# Altium footprint library 17-Relays.PcbLib: 68 footprints (part 2 of 5)
Each footprint in its own frame and in the unit in brackets; x right, y up, seen from the top. Pads: shape width x height; smd on the part's side, far side on the other; paste and mask are expansions set on the pad; w line width, h text height; cw(c..) or ccw(c..) is an arc to the next point about the centre after c.
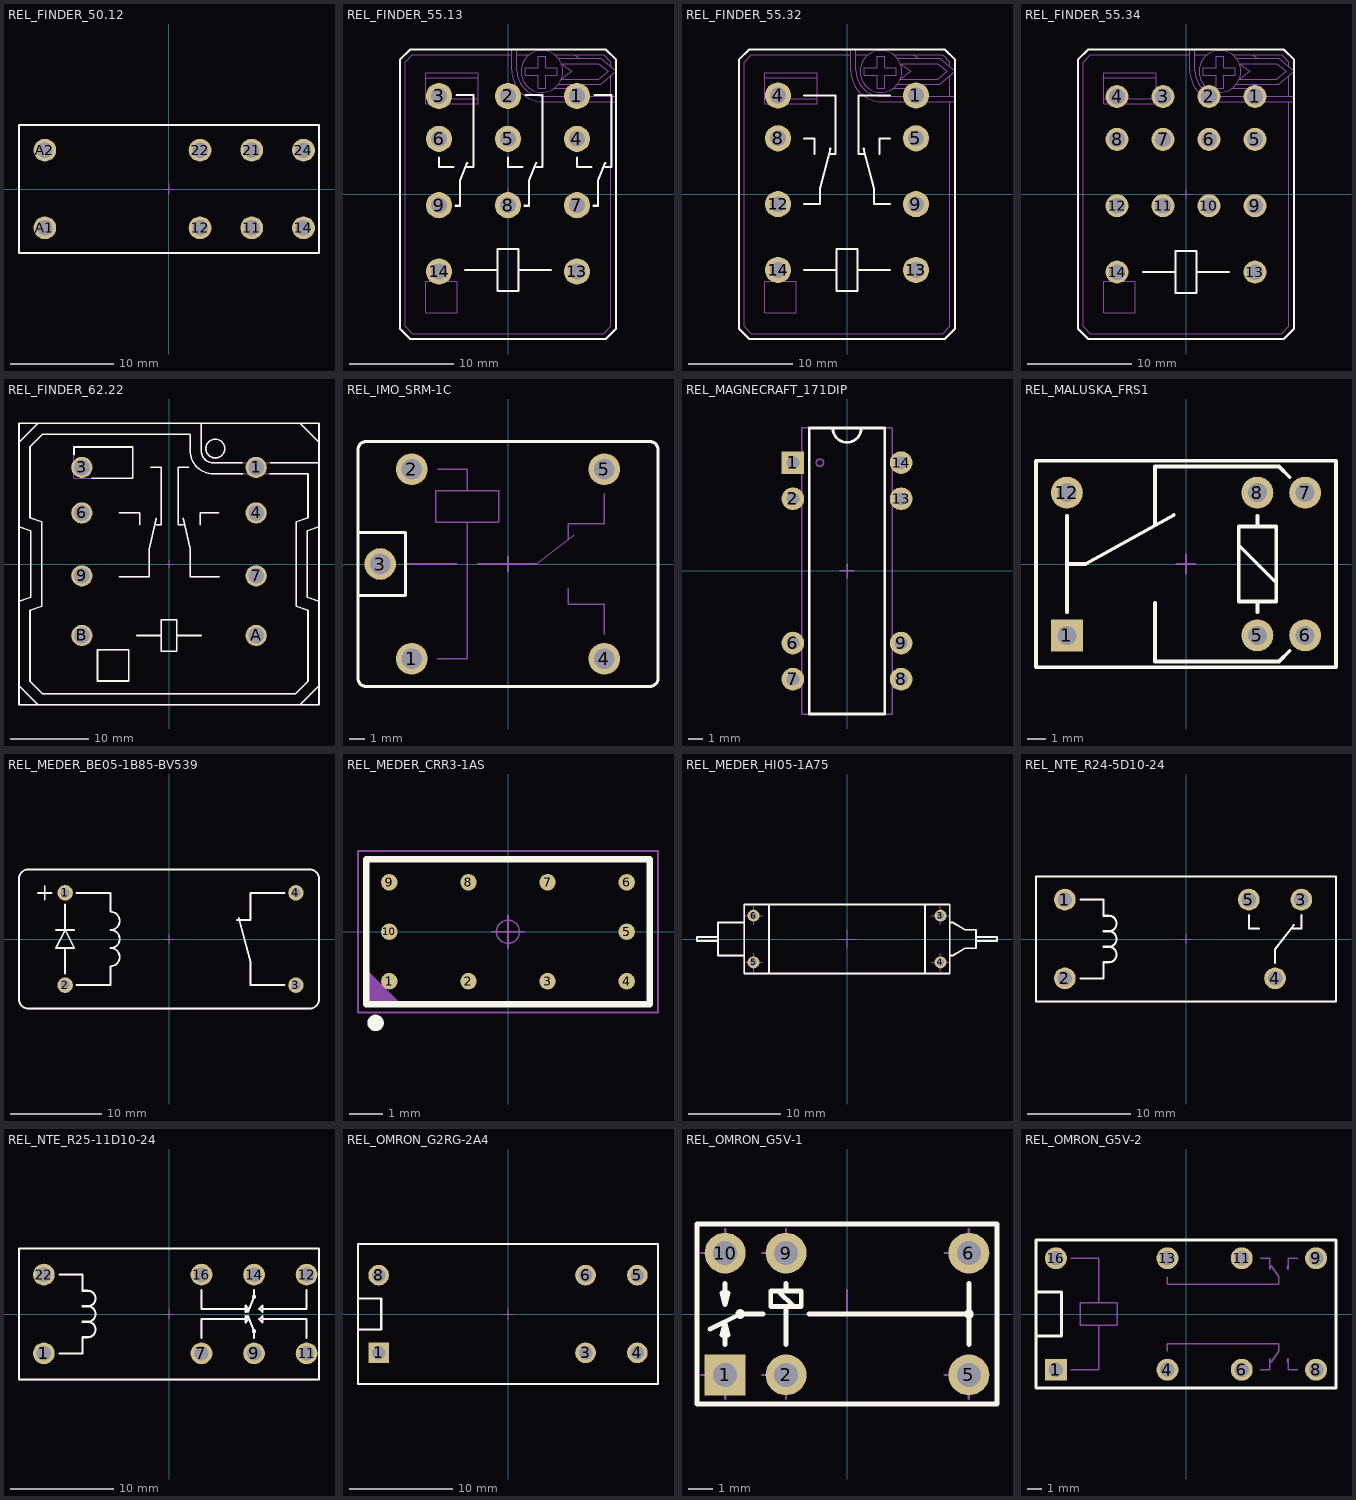
[diagram p1: the footprints below, top view; thin cyan lines are the x and y axes]

## REL_FINDER_50.12 [mm] "8 Leads, 2 Pole 8A Relay, FINDER 50.12 Serie, Body 29mm x 12.4mm"
height 25
pads (8):
  round 2.2 hole 1.5: 11(8,-3.75) 12(3,-3.75) 14(13,-3.75) 21(8,3.75) 22(3,3.75) 24(13,3.75) A1(-12,-3.75) A2(-12,3.75)
Top Overlay:
  lines w0.2: -14.5,-6.2 14.5,-6.2 14.5,6.2 -14.5,6.2 -14.5,-6.2
Mechanical 8:
  lines w0.1: -12.5,-3.75 -12,-3.75 ; -12.5,3.75 -12,3.75 ; -12,-4.25 -12,-3.75 ; -12,-3.25 -12,-3.75 ; -12,3.25 -12,3.75 ; -12,4.25 -12,3.75 ; -11.5,-3.75 -12,-3.75 ; -11.5,3.75 -12,3.75 ; -0.5,0 0,0 ; 0,-0.5 0,0 ; 0,0.5 0,0 ; 0.5,0 0,0 ; 2.5,-3.75 3,-3.75 ; 2.5,3.75 3,3.75 ; 3,-4.25 3,-3.75 ; 3,-3.25 3,-3.75 ; 3,3.25 3,3.75 ; 3,4.25 3,3.75 ; 3.5,-3.75 3,-3.75 ; 3.5,3.75 3,3.75 ; 7.5,-3.75 8,-3.75 ; 7.5,3.75 8,3.75 ; 8,-4.25 8,-3.75 ; 8,-3.25 8,-3.75 ; 8,3.25 8,3.75 ; 8,4.25 8,3.75 ; 8.5,-3.75 8,-3.75 ; 8.5,3.75 8,3.75 ; 12.5,-3.75 13,-3.75 ; 12.5,3.75 13,3.75 ; 13,-4.25 13,-3.75 ; 13,-3.25 13,-3.75 ; 13,3.25 13,3.75 ; 13,4.25 13,3.75 ; 13.5,-3.75 13,-3.75 ; 13.5,3.75 13,3.75
Mechanical 14:
  lines w0.1: -14.5,-6.2 14.5,-6.2 14.5,6.2 -14.5,6.2 -14.5,-6.2
3D body "REL_FINDER_50.12.stp": height 25, standoff -3.8, extent -14.5,-6.2 14.5,6.2

## REL_FINDER_55.13 [mm] "11 Leads, Row Spacing 13.2mm; Body 20.7mm x 27.7mm, FINDER_55.13 Serie"
height 35.8
pads (11):
  round 2.5 hole 1.5: 1(6.6,9.4) 2(0,9.4) 3(-6.6,9.4) 4(6.6,5.3) 5(0,5.3) 6(-6.6,5.3) 7(6.6,-1.05) 8(0,-1.05) 9(-6.6,-1.05) 13(6.6,-7.4) 14(-6.6,-7.4)
Top Overlay:
  lines w0.2: -6.6,3.5 -6.6,2.6 -5.2,2.6 ; -5,-1.1 -4.6,-1.1 -4.6,1.3 -3.9,3 ; -4.9,9.5 -3.3,9.5 -3.3,2.6 -3.9,2.6 ; -4.1,-7.25 -1,-7.25 ; 0,3.5 0,2.6 1.4,2.6 ; 1,-7.25 4.1,-7.25 ; 1.6,-1.1 2,-1.1 2,1.3 2.7,3 ; 1.7,9.5 3.3,9.5 3.3,2.6 2.7,2.6 ; 6.6,3.5 6.6,2.6 8,2.6 ; 8.2,-1.1 8.6,-1.1 8.6,1.3 9.3,3 ; 8.3,9.5 9.9,9.5 9.9,2.6 9.3,2.6 ; -10.35,-12.85 -9.35,-13.85 9.35,-13.85 10.35,-12.85 10.35,12.85 9.35,13.85 -9.35,13.85 -10.35,12.85 -10.35,-12.85 ; -1,-9.25 -1,-5.25 1,-5.25 1,-9.25 -1,-9.25
Mechanical 8:
  lines w0.1: -7.1,-7.4 -6.6,-7.4 ; -7.1,-1.05 -6.6,-1.05 ; -7.1,5.3 -6.6,5.3 ; -7.1,9.4 -6.6,9.4 ; -6.6,-7.9 -6.6,-7.4 ; -6.6,-6.9 -6.6,-7.4 ; -6.6,-1.55 -6.6,-1.05 ; -6.6,-0.55 -6.6,-1.05 ; -6.6,4.8 -6.6,5.3 ; -6.6,5.8 -6.6,5.3 ; -6.6,8.9 -6.6,9.4 ; -6.6,9.9 -6.6,9.4 ; -6.1,-7.4 -6.6,-7.4 ; -6.1,-1.05 -6.6,-1.05 ; -6.1,5.3 -6.6,5.3 ; -6.1,9.4 -6.6,9.4 ; -0.5,-1.05 0,-1.05 ; -0.5,0 0,0 ; -0.5,5.3 0,5.3 ; -0.5,9.4 0,9.4 ; 0,-1.55 0,-1.05 ; 0,-0.55 0,-1.05 ; 0,-0.5 0,0 ; 0,0.5 0,0 ; 0,4.8 0,5.3 ; 0,5.8 0,5.3 ; 0,8.9 0,9.4 ; 0,9.9 0,9.4 ; 0.5,-1.05 0,-1.05 ; 0.5,0 0,0 ; 0.5,5.3 0,5.3 ; 0.5,9.4 0,9.4 ; 6.1,-7.4 6.6,-7.4 ; 6.1,-1.05 6.6,-1.05 ; 6.1,5.3 6.6,5.3 ; 6.1,9.4 6.6,9.4 ; 6.6,-7.9 6.6,-7.4 ; 6.6,-6.9 6.6,-7.4 ; 6.6,-1.55 6.6,-1.05 ; 6.6,-0.55 6.6,-1.05 ; 6.6,4.8 6.6,5.3 ; 6.6,5.8 6.6,5.3 ; 6.6,8.9 6.6,9.4 ; 6.6,9.9 6.6,9.4 ; 7.1,-7.4 6.6,-7.4 ; 7.1,-1.05 6.6,-1.05 ; 7.1,5.3 6.6,5.3 ; 7.1,9.4 6.6,9.4
  text "4" at 9.7,4.85 h1.5
  text "1" at 9.7,9.25 h1.5
  text "7" at 9.6,-1.55 h1.5
  text "13" at 9.6,-8.45 h1.5
  text "34" at -8.1,4.05 h1.5
  text "42" at -8.1,8.15 h1.5
  text "31" at -8.1,-1.95 h1.5
  text "A2" at -8.1,-8.55 h1.5
  text "6" at -3.6,4.75 h1.5
  text "3" at -3.6,8.85 h1.5
  text "9" at -3.6,-1.45 h1.5
  text "14" at -3.6,-8.45 h1.5
  text "14" at 5.2,4.25 h1.5
  text "12" at 4.9,8.45 h1.5
  text "11" at 5.1,-1.95 h1.5
  text "A1" at 5.1,-8.45 h1.5
  text "2" at 3,8.95 h1.5
  text "22" at -1.5,8.15 h1.5
  text "5" at 3,4.75 h1.5
  text "24" at -1.5,4.05 h1.5
  text "8" at 3,-1.55 h1.5
  text "21" at -1.5,-1.95 h1.5
Mechanical 14:
  circle w0.1: c3.25,11.75 r2
  lines w0.1: -7.85,9.143 -2.85,9.143 ; -7.85,11.143 -2.85,11.143 ; -6.6,3.5 -6.6,2.6 -5.2,2.6 ; -5,-1.1 -4.6,-1.1 -4.6,1.3 -3.9,3 ; -4.9,9.5 -3.3,9.5 -3.3,2.6 -3.9,2.6 ; -4.1,-7.25 -1,-7.25 ; 0,3.5 0,2.6 1.4,2.6 ; 0.35,13.35 -9.143,13.35 -9.85,12.643 -9.85,-12.643 -9.143,-13.35 9.143,-13.35 9.85,-12.643 9.85,8.85 ; 0.35,13.85 0.35,11.85 ccw(c3.35,11.85) 3.35,8.85 10.35,8.85 ; 0.85,13.35 2.05,13.35 ; 0.85,13.85 0.85,11.85 ccw(c3.35,11.85) 3.35,9.35 10.35,9.35 ; 1,-7.25 4.1,-7.25 ; 1.6,-1.1 2,-1.1 2,1.3 2.7,3 ; 1.7,9.5 3.3,9.5 3.3,2.6 2.7,2.6 ; 4.45,10.15 6.346,10.15 6.831,10.5 ; 4.45,13.35 6.346,13.35 ; 4.811,10.5 8.85,10.5 10.35,11.75 8.85,13 4.811,13 ; 6.6,3.5 6.6,2.6 8,2.6 ; 6.831,13 6.346,13.35 ; 8.2,-1.1 8.6,-1.1 8.6,1.3 9.3,3 ; 8.3,9.5 9.9,9.5 9.9,2.6 9.3,2.6 ; 9.85,9.35 9.85,11.333 ; 9.85,12.167 9.85,12.643 9.143,13.35 6.346,13.35 ; -10.35,-12.85 -9.35,-13.85 9.35,-13.85 10.35,-12.85 10.35,12.85 9.35,13.85 -9.35,13.85 -10.35,12.85 -10.35,-12.85 ; -7.85,-11.343 -7.85,-8.343 -4.85,-8.343 -4.85,-11.343 -7.85,-11.343 ; -7.85,8.643 -7.85,11.643 -2.85,11.643 -2.85,8.643 -7.85,8.643 ; -1,-9.25 1,-9.25 1,-5.25 -1,-5.25 -1,-9.25 ; 1.641,11.402 1.641,12.088 2.902,12.088 2.902,13.222 3.588,13.222 3.588,12.088 4.71,12.088 4.71,11.402 3.588,11.402 3.588,10.153 2.902,10.153 2.902,11.402 1.641,11.402 ; 5.104,11 8.669,11 9.569,11.75 8.669,12.5 5.104,12.5 6.075,11.75 5.104,11
3D body "REL_FINDER_55.13.stp": height 36.3, standoff -3.8, extent -10.35,-13.85 10.35,13.85

## REL_FINDER_55.32 [mm] "8 Leads, Row Spacing 13.2mm; Body 20.7mm x 27.7mm, FINDER_55.32 Serie"
height 37.2
pads (8):
  round 2.5 hole 1.5: 1(6.6,9.45) 4(-6.6,9.45) 5(6.6,5.35) 8(-6.6,5.35) 9(6.6,-0.95) 12(-6.6,-0.95) 13(6.6,-7.25) 14(-6.6,-7.25)
Top Overlay:
  lines w0.2: -4.1,-7.25 -1,-7.25 ; -4.1,-0.95 -2.6,-0.95 -2.6,0.55 -1.6,4.35 ; -4.1,5.35 -3.1,5.35 -3.1,3.85 ; -4.1,9.45 -1.1,9.45 -1.1,3.85 -1.732,3.85 ; 1,-7.25 4.1,-7.25 ; 1.6,4.35 2.6,0.55 2.6,-0.95 4.1,-0.95 ; 1.732,3.85 1.1,3.85 1.1,9.45 4.1,9.45 ; 3.1,3.85 3.1,5.35 4.1,5.35 ; -10.35,-12.85 -10.35,12.85 -9.35,13.85 9.35,13.85 10.35,12.85 10.35,-12.85 9.35,-13.85 -9.35,-13.85 -10.35,-12.85 ; -1,-9.25 1,-9.25 1,-5.25 -1,-5.25 -1,-9.25
Mechanical 8:
  lines w0.1: -7.6,-7.25 -6.6,-7.25 -6.6,-8.25 ; -7.6,-0.95 -6.6,-0.95 -6.6,-1.95 ; -7.6,5.35 -6.6,5.35 -6.6,4.35 ; -7.6,9.45 -6.6,9.45 -6.6,8.45 ; 5.6,-7.25 6.6,-7.25 6.6,-8.25 ; 5.6,-0.95 6.6,-0.95 6.6,-1.95 ; 5.6,5.35 6.6,5.35 6.6,4.35 ; 5.6,9.45 6.6,9.45 6.6,8.45
  text "Must be Used with FINDER 94.12 Socket" at -1.27,-13.335 h0.95
  text "13" at 5.35,-8.25 h1.5
  text "9" at 5.35,-1.45 h1.5
  text "1" at 5.35,9.2 h1.5
  text "5" at 5.35,4.85 h1.5
  text "14" at -3.85,-8.25 h1.5
  text "12" at -3.85,-1.95 h1.5
  text "4" at -3.85,8.95 h1.5
  text "8" at -3.85,4.85 h1.5
  text "A2" at -7.85,-8.5 h1.5
  text "41" at -7.85,-1.95 h1.5
  text "42" at -7.85,8.2 h1.5
  text "44" at -7.85,4.1 h1.5
  text "A1" at 9.35,-8.25 h1.5
  text "11" at 9.35,-1.7 h1.5
  text "12" at 9.35,8.45 h1.5
  text "14" at 9.35,4.35 h1.5
Mechanical 14:
  circle w0.1: c3.25,11.75 r2
  lines w0.1: -7.85,9.143 -2.85,9.143 ; -7.85,11.143 -2.85,11.143 ; 0.35,13.35 -9.143,13.35 -9.85,12.643 -9.85,-12.643 -9.143,-13.35 9.143,-13.35 9.85,-12.643 9.85,8.85 ; 0.35,13.85 0.35,11.85 ccw(c3.35,11.85) 3.35,8.85 10.35,8.85 ; 0.85,13.35 2.05,13.35 ; 0.85,13.85 0.85,11.85 ccw(c3.35,11.85) 3.35,9.35 10.35,9.35 ; 4.45,10.15 6.346,10.15 6.831,10.5 ; 4.45,13.35 6.346,13.35 ; 4.811,10.5 8.85,10.5 10.35,11.75 8.85,13 4.811,13 ; 6.831,13 6.346,13.35 ; 9.85,9.35 9.85,11.333 ; 9.85,12.167 9.85,12.643 9.143,13.35 6.346,13.35 ; -10.35,-12.85 -10.35,12.85 -9.35,13.85 9.35,13.85 10.35,12.85 10.35,-12.85 9.35,-13.85 -9.35,-13.85 -10.35,-12.85 ; -7.85,-11.343 -4.85,-11.343 -4.85,-8.343 -7.85,-8.343 -7.85,-11.343 ; -7.85,8.643 -2.85,8.643 -2.85,11.643 -7.85,11.643 -7.85,8.643 ; 1.641,11.402 2.902,11.402 2.902,10.153 3.588,10.153 3.588,11.402 4.71,11.402 4.71,12.088 3.588,12.088 3.588,13.222 2.902,13.222 2.902,12.088 1.641,12.088 1.641,11.402 ; 5.104,11 6.075,11.75 5.104,12.5 8.669,12.5 9.569,11.75 8.669,11 5.104,11
3D body "REL_FINDER_55.32.stp": height 48.2, standoff 5.4, extent -10.35,-13.85 10.35,13.85

## REL_FINDER_55.34 [mm] "14 Leads, Row Spacing 4.4mm; Body 20.7mm x 27.7mm, FINDER_55.34 Serie"
height 37.2
pads (14):
  round 2.2 hole 1.5: 1(6.6,9.35) 2(2.2,9.35) 3(-2.2,9.35) 4(-6.6,9.35) 5(6.6,5.25) 6(2.2,5.25) 7(-2.2,5.25) 8(-6.6,5.25) 9(6.6,-1.1) 10(2.2,-1.1) 11(-2.2,-1.1) 12(-6.6,-1.1) 13(6.6,-7.45) 14(-6.6,-7.45)
Top Overlay:
  lines w0.2: -4.1,-7.45 -1,-7.45 ; 1,-7.45 4.1,-7.45 ; -10.35,-12.85 -9.35,-13.85 9.35,-13.85 10.35,-12.85 10.35,12.85 9.35,13.85 -9.35,13.85 -10.35,12.85 -10.35,-12.85 ; -1,-9.45 -1,-5.45 1,-5.45 1,-9.45 -1,-9.45
Mechanical 8:
  lines w0.1: -7.1,-7.45 -6.6,-7.45 ; -7.1,-1.1 -6.6,-1.1 ; -7.1,5.25 -6.6,5.25 ; -7.1,9.35 -6.6,9.35 ; -6.6,-7.95 -6.6,-7.45 ; -6.6,-6.95 -6.6,-7.45 ; -6.6,-1.6 -6.6,-1.1 ; -6.6,-0.6 -6.6,-1.1 ; -6.6,4.75 -6.6,5.25 ; -6.6,5.75 -6.6,5.25 ; -6.6,8.85 -6.6,9.35 ; -6.6,9.85 -6.6,9.35 ; -6.1,-7.45 -6.6,-7.45 ; -6.1,-1.1 -6.6,-1.1 ; -6.1,5.25 -6.6,5.25 ; -6.1,9.35 -6.6,9.35 ; -2.7,-1.1 -2.2,-1.1 ; -2.7,5.25 -2.2,5.25 ; -2.7,9.35 -2.2,9.35 ; -2.2,-1.6 -2.2,-1.1 ; -2.2,-0.6 -2.2,-1.1 ; -2.2,4.75 -2.2,5.25 ; -2.2,5.75 -2.2,5.25 ; -2.2,8.85 -2.2,9.35 ; -2.2,9.85 -2.2,9.35 ; -1.7,-1.1 -2.2,-1.1 ; -1.7,5.25 -2.2,5.25 ; -1.7,9.35 -2.2,9.35 ; -0.5,0 0,0 ; 0,-0.5 0,0 ; 0,0.5 0,0 ; 0.5,0 0,0 ; 1.7,-1.1 2.2,-1.1 ; 1.7,5.25 2.2,5.25 ; 1.7,9.35 2.2,9.35 ; 2.2,-1.6 2.2,-1.1 ; 2.2,-0.6 2.2,-1.1 ; 2.2,4.75 2.2,5.25 ; 2.2,5.75 2.2,5.25 ; 2.2,8.85 2.2,9.35 ; 2.2,9.85 2.2,9.35 ; 2.7,-1.1 2.2,-1.1 ; 2.7,5.25 2.2,5.25 ; 2.7,9.35 2.2,9.35 ; 6.1,-7.45 6.6,-7.45 ; 6.1,-1.1 6.6,-1.1 ; 6.1,5.25 6.6,5.25 ; 6.1,9.35 6.6,9.35 ; 6.6,-7.95 6.6,-7.45 ; 6.6,-6.95 6.6,-7.45 ; 6.6,-1.6 6.6,-1.1 ; 6.6,-0.6 6.6,-1.1 ; 6.6,4.75 6.6,5.25 ; 6.6,5.75 6.6,5.25 ; 6.6,8.85 6.6,9.35 ; 6.6,9.85 6.6,9.35 ; 7.1,-7.45 6.6,-7.45 ; 7.1,-1.1 6.6,-1.1 ; 7.1,5.25 6.6,5.25 ; 7.1,9.35 6.6,9.35
  text "14" at -7.9,-8.55 h1.5
  text "13" at 5.3,-8.55 h1.5
  text "1" at 5.3,8.9 h1.5
  text "5" at 5.3,4.8 h1.5
  text "9" at 5.3,-1.5 h1.5
  text "10" at 0.9,-2 h1.5
  text "11" at -3.5,-1.5 h1.5
  text "6" at 0.9,4.8 h1.5
  text "2" at 0.9,8.9 h1.5
  text "3" at -3.5,8.9 h1.5
  text "7" at -3.5,4.8 h1.5
  text "8" at -7.9,4.8 h1.5
  text "4" at -7.9,8.8 h1.5
  text "12" at -7.85,-1.95 h1.5
Mechanical 14:
  circle w0.1: c3.25,11.75 r2
  lines w0.1: -7.85,9.143 -2.85,9.143 ; -7.85,11.143 -2.85,11.143 ; 0.35,13.35 -9.143,13.35 -9.85,12.643 -9.85,-12.643 -9.143,-13.35 9.143,-13.35 9.85,-12.643 9.85,8.85 ; 0.35,13.85 0.35,11.85 ccw(c3.35,11.85) 3.35,8.85 10.35,8.85 ; 0.85,13.35 2.05,13.35 ; 0.85,13.85 0.85,11.85 ccw(c3.35,11.85) 3.35,9.35 10.35,9.35 ; 4.45,10.15 6.346,10.15 6.831,10.5 ; 4.45,13.35 6.346,13.35 ; 4.811,10.5 8.85,10.5 10.35,11.75 8.85,13 4.811,13 ; 6.831,13 6.346,13.35 ; 9.85,9.35 9.85,11.333 ; 9.85,12.167 9.85,12.643 9.143,13.35 6.346,13.35 ; -10.35,-12.85 -9.35,-13.85 ; -10.35,-12.85 -10.35,12.85 ; -10.35,-12.85 -9.35,-13.85 ; -10.35,-12.85 -10.35,12.85 ; -10.35,12.85 -9.35,13.85 ; -10.35,12.85 -9.35,13.85 ; -9.35,-13.85 9.35,-13.85 ; -9.35,-13.85 9.35,-13.85 ; -9.35,13.85 9.35,13.85 ; -9.35,13.85 9.35,13.85 ; 9.35,-13.85 10.35,-12.85 ; 9.35,-13.85 10.35,-12.85 ; 9.35,13.85 10.35,12.85 ; 9.35,13.85 10.35,12.85 ; 10.35,-12.85 10.35,12.85 ; 10.35,-12.85 10.35,12.85 ; -7.85,-11.343 -7.85,-8.343 -4.85,-8.343 -4.85,-11.343 -7.85,-11.343 ; -7.85,8.643 -7.85,11.643 -2.85,11.643 -2.85,8.643 -7.85,8.643 ; 1.641,11.402 1.641,12.088 2.902,12.088 2.902,13.222 3.588,13.222 3.588,12.088 4.71,12.088 4.71,11.402 3.588,11.402 3.588,10.153 2.902,10.153 2.902,11.402 1.641,11.402 ; 5.104,11 6.075,11.75 5.104,12.5 8.669,12.5 9.569,11.75 8.669,11 5.104,11
3D body "REL_FINDER_55.34.stp": height 48.7, standoff 5.4, extent -10.35,-13.85 10.35,13.85

## REL_FINDER_62.22 [mm] "8 Leads, Row Spacing 22.2mm; Body 35.8mm x 38.2mm, FINDER 62.22 Serie"
height 37.2
pads (8):
  round 2.7 hole 2: 1(11.1,12.3) 3(-11.1,12.3) 4(11.1,6.5) 6(-11.1,6.5) 7(11.1,-1.5) 9(-11.1,-1.5) A(11.1,-9.1) B(-11.1,-9.1)
Top Overlay:
  circle w0.2: c5.9,14.7 r1.2
  lines w0.2: -19.1,-4.75 -17.6,-4.25 -17.6,4.25 -19.1,4.75 ; -12.1,13.916 -12.1,14.9 -4.6,14.9 -4.6,10.9 -9.815,10.9 ; -6.3,-1.6 -2.5,-1.6 -2.5,1.9 -1.6,5.8 ; -6.3,6.5 -3.7,6.5 -3.7,5 ; -4.1,-9.1 -1,-9.1 ; -2.3,12.3 -1,12.3 -1,5 -1.632,5 ; 1,-9.1 4.1,-9.1 ; 1.8,5.8 2.7,1.9 2.7,-1.6 6.4,-1.6 ; 1.832,5 1.2,5 1.2,12.3 2.5,12.3 ; 4,5 4,6.5 6.3,6.5 ; 4.1,17.9 4.1,14.4 ccw(c5.6,14.4) 5.6,12.9 9.297,12.9 ; 9.377,11.5 5.6,11.5 cw(c5.6,14.4) 2.7,14.4 2.7,16.5 -16.127,16.5 -17.7,14.927 -17.7,5.899 -16.2,5.399 -16.2,-5.399 -17.7,-5.899 -17.7,-14.927 -16.127,-16.5 16.127,-16.5 17.7,-14.927 17.7,-5.899 16.2,-5.399 16.2,5.399 17.7,5.899 17.7,11.5 12.823,11.5 ; 12.903,12.9 19.1,12.9 ; 19.1,-4.75 17.6,-4.25 17.6,4.25 19.1,4.75 ; -19.1,-15.5 -19.1,15.5 ; -19.1,-15.5 -16.7,-17.9 ; -19.1,-15.5 -19.1,-17.9 -16.7,-17.9 ; -19.1,15.5 -16.7,17.9 ; -19.1,15.5 -19.1,17.9 -16.7,17.9 ; -16.7,-17.9 16.7,-17.9 ; -16.7,17.9 16.7,17.9 ; 16.7,-17.9 19.1,-15.5 ; 16.7,-17.9 19.1,-17.9 19.1,-15.5 ; 16.7,17.9 19.1,15.5 ; 16.7,17.9 19.1,17.9 19.1,15.5 ; 19.1,-15.5 19.1,15.5 ; -9.1,-14.9 -5.1,-14.9 -5.1,-10.9 -9.1,-10.9 -9.1,-14.9 ; -1,-11.1 1,-11.1 1,-7.1 -1,-7.1 -1,-11.1
Mechanical 8:
  lines w0.1: -11.6,-9.1 -11.1,-9.1 ; -11.6,-1.5 -11.1,-1.5 ; -11.6,6.5 -11.1,6.5 ; -11.6,12.3 -11.1,12.3 ; -11.1,-9.6 -11.1,-9.1 ; -11.1,-8.6 -11.1,-9.1 ; -11.1,-2 -11.1,-1.5 ; -11.1,-1 -11.1,-1.5 ; -11.1,6 -11.1,6.5 ; -11.1,7 -11.1,6.5 ; -11.1,11.8 -11.1,12.3 ; -11.1,12.8 -11.1,12.3 ; -10.6,-9.1 -11.1,-9.1 ; -10.6,-1.5 -11.1,-1.5 ; -10.6,6.5 -11.1,6.5 ; -10.6,12.3 -11.1,12.3 ; -0.5,0 0,0 ; 0,-0.5 0,0 ; 0,0.5 0,0 ; 0.5,0 0,0 ; 10.6,-9.1 11.1,-9.1 ; 10.6,-1.5 11.1,-1.5 ; 10.6,6.5 11.1,6.5 ; 10.6,12.3 11.1,12.3 ; 11.1,-9.6 11.1,-9.1 ; 11.1,-8.6 11.1,-9.1 ; 11.1,-2 11.1,-1.5 ; 11.1,-1 11.1,-1.5 ; 11.1,6 11.1,6.5 ; 11.1,7 11.1,6.5 ; 11.1,11.8 11.1,12.3 ; 11.1,12.8 11.1,12.3 ; 11.6,-9.1 11.1,-9.1 ; 11.6,-1.5 11.1,-1.5 ; 11.6,6.5 11.1,6.5 ; 11.6,12.3 11.1,12.3
  text "B" at -13.15,-10.1 h1.5
  text "9" at -13.15,-2 h1.5
  text "3" at -13.15,12.05 h1.5
  text "6" at -13.15,6 h1.5
  text "A" at 14.65,-10.1 h1.5
  text "7" at 14.65,-2.5 h1.5
  text "1" at 14.65,11.8 h1.5
  text "4" at 14.65,6 h1.5
  text "A1" at 9.05,-10.35 h1.5
  text "11" at 9.05,-2.5 h1.5
  text "12" at 9.05,11.05 h1.5
  text "14" at 9.05,5.25 h1.5
  text "A2" at -7.55,-10.1 h1.5
  text "31" at -7.55,-2.25 h1.5
  text "32" at -7.55,11.3 h1.5
  text "34" at -7.55,5.5 h1.5
Mechanical 14:
  circle w0.1: c5.9,14.7 r1.2
  lines w0.1: -19.1,-4.75 -17.6,-4.25 -17.6,4.25 -19.1,4.75 ; -6.3,-1.6 -2.5,-1.6 -2.5,1.9 -1.6,5.8 ; -6.3,6.5 -3.7,6.5 -3.7,5 ; -4.1,-9.1 -1,-9.1 ; -2.3,12.3 -1,12.3 -1,5 -1.632,5 ; 1,-9.1 4.1,-9.1 ; 1.8,5.8 2.7,1.9 2.7,-1.6 6.4,-1.6 ; 1.832,5 1.2,5 1.2,12.3 2.5,12.3 ; 4,5 4,6.5 6.3,6.5 ; 4.1,17.9 4.1,14.4 ccw(c5.6,14.4) 5.6,12.9 19.1,12.9 ; 19.1,-4.75 17.6,-4.25 17.6,4.25 19.1,4.75 ; -19.1,-15.5 -19.1,-17.9 -16.7,-17.9 ; -19.1,-15.5 -19.1,15.5 ; -19.1,-15.5 -16.7,-17.9 ; -19.1,15.5 -19.1,17.9 -16.7,17.9 ; -19.1,15.5 -16.7,17.9 ; -16.7,-17.9 16.7,-17.9 ; -16.7,17.9 16.7,17.9 ; 16.7,-17.9 19.1,-17.9 19.1,-15.5 ; 16.7,-17.9 19.1,-15.5 ; 16.7,17.9 19.1,17.9 19.1,15.5 ; 16.7,17.9 19.1,15.5 ; 19.1,-15.5 19.1,15.5 ; -17.7,-14.927 -16.127,-16.5 16.127,-16.5 17.7,-14.927 17.7,-5.899 16.2,-5.399 16.2,5.399 17.7,5.899 17.7,11.5 5.6,11.5 cw(c5.6,14.4) 2.7,14.4 2.7,16.5 -16.127,16.5 -17.7,14.927 -17.7,5.899 -16.2,5.399 -16.2,-5.399 -17.7,-5.899 -17.7,-14.927 ; -12.1,10.9 -4.6,10.9 -4.6,14.9 -12.1,14.9 -12.1,10.9 ; -9.1,-14.9 -5.1,-14.9 -5.1,-10.9 -9.1,-10.9 -9.1,-14.9 ; -1,-11.1 -1,-7.1 1,-7.1 1,-11.1 -1,-11.1
3D body "REL_FINDER_62.22.stp": height 49.1, standoff -4, extent -19.1,-17.9 19.1,17.9

## REL_IMO_SRM-1C [mm] "8 Leads, Row Spacing 12 mm; Body 19mm x 15.5mm, SRM Serie"
height 15.5
pads (5):
  round 2 hole 1.3: 1(-6.1,-6) 2(-6.1,6) 3(-8.1,0) 4(6.1,-6) 5(6.1,6)
Top Overlay:
  lines w0.2: -9.5,-2 -6.5,-2 -6.5,2 -9.5,2 ; -9.5,-7.25 ccw(c-9,-7.25) -9,-7.75 9,-7.75 ccw(c9,-7.25) 9.5,-7.25 9.5,7.25 ccw(c9,7.25) 9,7.75 -9,7.75 ccw(c-9,7.25) -9.5,7.25 -9.5,-7.25
Mechanical 8:
  lines w0.1: -8.6,0 -8.1,0 ; -8.1,-0.5 -8.1,0 ; -8.1,0.5 -8.1,0 ; -7.6,0 -8.1,0 ; -6.6,-6 -6.1,-6 ; -6.6,6 -6.1,6 ; -6.5,0 -3.25,0 ; -6.1,-6.5 -6.1,-6 ; -6.1,-5.5 -6.1,-6 ; -6.1,5.5 -6.1,6 ; -6.1,6.5 -6.1,6 ; -5.6,-6 -6.1,-6 ; -5.6,6 -6.1,6 ; -4.475,-6 -2.575,-6 -2.575,2.65 ; -4.45,6 -2.575,6 -2.575,4.65 ; -1.9,0 1.81,0 4.152,1.803 ; 3.81,-1.54 3.81,-2.54 6.1,-2.54 ; 3.81,1.54 3.81,2.54 6.1,2.54 6.1,4.44 ; 5.6,-6 6.1,-6 ; 5.6,6 6.1,6 ; 6.1,-6.5 6.1,-6 ; 6.1,-5.5 6.1,-6 ; 6.1,-4.45 6.1,-2.55 ; 6.1,5.5 6.1,6 ; 6.1,6.5 6.1,6 ; 6.6,-6 6.1,-6 ; 6.6,6 6.1,6 ; 0,0 0,0.5 0,0 ; 0,0 0.5,0 0,0 ; 0,0 0,-0.5 0,0 ; 0,0 -0.5,0 0,0 ; -4.575,2.65 -0.575,2.65 -0.575,4.65 -4.575,4.65 -4.575,2.65
Mechanical 14:
  lines w0.1: -9.5,-2 -6.5,-2 -6.5,2 -9.5,2 ; -9.5,-7.25 ccw(c-9,-7.25) -9,-7.75 9,-7.75 ccw(c9,-7.25) 9.5,-7.25 9.5,7.25 ccw(c9,7.25) 9,7.75 -9,7.75 ccw(c-9,7.25) -9.5,7.25 -9.5,-7.25
3D body "REL_IMO_SRM-1C.stp": height 15.5, standoff -3.6, extent -9.5,-7.75 9.5,7.75

## REL_MAGNECRAFT_171DIP [mm] "DIP 14 Leads, Row Spacing 7.62 mm; Pitch 2.54 mm, PCB & Reed Relay, 171DIP Serie"
height 8
pads (8):
  rect 1.6x1.6 hole 0.9: 1(-3.81,7.62)
  round 1.6 hole 0.9: 2(-3.81,5.08) 6(-3.81,-5.08) 7(-3.81,-7.62) 8(3.81,-7.62) 9(3.81,-5.08) 13(3.81,5.08) 14(3.81,7.62)
Top Overlay:
  lines w0.2: -1,10.046 ccw(c0,10.046) 1,10.046 ; -2.66,-10.07 2.66,-10.07 2.66,10.07 -2.66,10.07 -2.66,-10.07
Mechanical 8:
  lines w0.1: -4.31,-7.62 -3.81,-7.62 ; -4.31,-5.08 -3.81,-5.08 ; -4.31,5.08 -3.81,5.08 ; -4.31,7.62 -3.81,7.62 ; -3.81,-8.12 -3.81,-7.62 ; -3.81,-7.12 -3.81,-7.62 ; -3.81,-5.58 -3.81,-5.08 ; -3.81,-4.58 -3.81,-5.08 ; -3.81,4.58 -3.81,5.08 ; -3.81,5.58 -3.81,5.08 ; -3.81,7.12 -3.81,7.62 ; -3.81,8.12 -3.81,7.62 ; -3.31,-7.62 -3.81,-7.62 ; -3.31,-5.08 -3.81,-5.08 ; -3.31,5.08 -3.81,5.08 ; -3.31,7.62 -3.81,7.62 ; -0.5,0 0,0 ; 0,-0.5 0,0 ; 0,0.5 0,0 ; 0.5,0 0,0 ; 3.31,-7.62 3.81,-7.62 ; 3.31,-5.08 3.81,-5.08 ; 3.31,5.08 3.81,5.08 ; 3.31,7.62 3.81,7.62 ; 3.81,-8.12 3.81,-7.62 ; 3.81,-7.12 3.81,-7.62 ; 3.81,-5.58 3.81,-5.08 ; 3.81,-4.58 3.81,-5.08 ; 3.81,4.58 3.81,5.08 ; 3.81,5.58 3.81,5.08 ; 3.81,7.12 3.81,7.62 ; 3.81,8.12 3.81,7.62 ; 4.31,-7.62 3.81,-7.62 ; 4.31,-5.08 3.81,-5.08 ; 4.31,5.08 3.81,5.08 ; 4.31,7.62 3.81,7.62
Mechanical 14:
  circle w0.1: c-1.905,7.62 r0.254
  lines w0.1: -1,10.07 ccw(c0,10.046) 1,10.07 ; -3.175,-10.07 -3.175,10.07 3.175,10.07 3.175,-10.07 -3.175,-10.07
3D body "REL_MAGNECRAFT_171DIP.stp": height 8.26, standoff -3.3, extent -3.935,-10.07 3.935,10.07

## REL_MALUSKA_FRS1 [mm] "6 Leads, Row Spacing 7.62mm; Body 16mm x 11mm, MALUSKA FRS1 Serie"
height 11.5
pads (6):
  rect 1.7x1.7 hole 1: 1(-6.35,-3.81)
  round 1.7 hole 1: 5(3.81,-3.81) 6(6.35,-3.81) 7(6.35,3.81) 8(3.81,3.81) 12(-6.35,3.81)
Top Overlay:
  lines w0.2: -6.35,-2.56 -6.35,2.56 ; -6.35,0 -5.35,0 -0.65,2.617 ; -1.65,-2.06 -1.65,-5.2 4.96,-5.2 5.537,-4.623 ; -1.65,2.06 -1.65,5.2 4.96,5.2 5.537,4.623 ; 2.81,1 4.81,-1 ; 3.81,-2.56 3.81,-2 ; 3.81,2 3.81,2.56 ; -8,-5.5 -8,5.5 8,5.5 8,-5.5 -8,-5.5 ; 2.81,-2 2.81,2 4.81,2 4.81,-2 2.81,-2
Mechanical 8:
  lines w0.1: -6.85,-3.81 -6.35,-3.81 ; -6.85,3.81 -6.35,3.81 ; -6.35,-4.31 -6.35,-3.81 ; -6.35,-3.31 -6.35,-3.81 ; -6.35,3.31 -6.35,3.81 ; -6.35,4.31 -6.35,3.81 ; -5.85,-3.81 -6.35,-3.81 ; -5.85,3.81 -6.35,3.81 ; -0.5,0 0,0 ; 0,-0.5 0,0 ; 0,0.5 0,0 ; 0.5,0 0,0 ; 3.31,-3.81 3.81,-3.81 ; 3.31,3.81 3.81,3.81 ; 3.81,-4.31 3.81,-3.81 ; 3.81,-3.31 3.81,-3.81 ; 3.81,3.31 3.81,3.81 ; 3.81,4.31 3.81,3.81 ; 4.31,-3.81 3.81,-3.81 ; 4.31,3.81 3.81,3.81 ; 5.85,-3.81 6.35,-3.81 ; 5.85,3.81 6.35,3.81 ; 6.35,-4.31 6.35,-3.81 ; 6.35,-3.31 6.35,-3.81 ; 6.35,3.31 6.35,3.81 ; 6.35,4.31 6.35,3.81 ; 6.85,-3.81 6.35,-3.81 ; 6.85,3.81 6.35,3.81
Mechanical 14:
  lines w0.1: -6.35,-2.56 -6.35,2.56 ; -6.35,0 -5.35,0 -0.65,2.617 ; -1.65,-2.06 -1.65,-5.2 4.96,-5.2 5.537,-4.623 ; -1.65,2.06 -1.65,5.2 ; 2.81,1 4.81,-1 ; 3.81,-2.56 3.81,-2 ; 3.81,2 3.81,2.56 ; 4.96,5.2 5.537,4.623 ; -8,-5.5 -8,5.5 8,5.5 8,-5.5 -8,-5.5 ; 2.81,-2 2.81,2 4.81,2 4.81,-2 2.81,-2
3D body "REL_MALUSKA_FRS1.stp": height 11.5, standoff -3.8, extent -8,-5.5 8,5.5

## REL_MEDER_BE05-1B85-BV539 [mm] "1 Form B (SPST Normaly Close) PCB Relay, Body 33mm x 15.3mm, Body 33mm x 15.3mm"
height 10
pads (4):
  round 1.7 hole 1: 1(-11.43,5.08) 2(-11.43,-5.08) 3(13.97,-5.08) 4(13.97,5.08)
Top Overlay:
  lines w0.2: -14.43,5.08 -12.93,5.08 ; -13.68,4.33 -13.68,5.83 ; -12.43,1 -10.43,1 ; -11.43,-3.83 -11.43,-1 ; -11.43,3.83 -11.43,1 ; -10.18,-5.08 -6.43,-5.08 -6.43,-3 ccw(c-6.43,-2) -6.43,-1 ccw(c-6.43,0) -6.43,1 ccw(c-6.43,2) -6.43,3 -6.43,5.08 -10.18,5.08 ; 7.47,2.08 8.97,2.08 8.97,5.08 12.72,5.08 ; 7.676,2.33 8.97,-2.5 8.97,-5.08 12.72,-5.08 ; -11.43,1 -10.43,-1 -12.43,-1 -11.43,1 ; -16.51,-6.65 ccw(c-15.51,-6.65) -15.51,-7.65 15.51,-7.65 ccw(c15.51,-6.65) 16.51,-6.65 16.51,6.65 ccw(c15.51,6.65) 15.51,7.65 -15.51,7.65 ccw(c-15.51,6.65) -16.51,6.65 -16.51,-6.65
Mechanical 8:
  lines w0.1: -11.93,-5.08 -11.43,-5.08 ; -11.93,5.08 -11.43,5.08 ; -11.43,-5.58 -11.43,-5.08 ; -11.43,-4.58 -11.43,-5.08 ; -11.43,4.58 -11.43,5.08 ; -11.43,5.58 -11.43,5.08 ; -10.93,-5.08 -11.43,-5.08 ; -10.93,5.08 -11.43,5.08 ; -0.5,0 0,0 ; 0,-0.5 0,0 ; 0,0.5 0,0 ; 0.5,0 0,0 ; 13.47,-5.08 13.97,-5.08 ; 13.47,5.08 13.97,5.08 ; 13.97,-5.58 13.97,-5.08 ; 13.97,-4.58 13.97,-5.08 ; 13.97,4.58 13.97,5.08 ; 13.97,5.58 13.97,5.08 ; 14.47,-5.08 13.97,-5.08 ; 14.47,5.08 13.97,5.08
Mechanical 14:
  lines w0.1: -14.43,5.08 -12.93,5.08 ; -13.68,4.33 -13.68,5.83 ; -12.43,1 -10.43,1 ; -11.43,-3.83 -11.43,-1 ; -11.43,3.83 -11.43,1 ; -10.18,-5.08 -6.43,-5.08 -6.43,-3 ccw(c-6.43,-2) -6.43,-1 ccw(c-6.43,0) -6.43,1 ccw(c-6.43,2) -6.43,3 -6.43,5.08 -10.18,5.08 ; 7.47,2.08 8.97,2.08 8.97,5.08 12.72,5.08 ; 7.676,2.33 8.97,-2.5 8.97,-5.08 12.72,-5.08 ; -11.43,1 -10.43,-1 -12.43,-1 -11.43,1 ; -16.51,-6.65 ccw(c-15.51,-6.65) -15.51,-7.65 15.51,-7.65 ccw(c15.51,-6.65) 16.51,-6.65 16.51,6.65 ccw(c15.51,6.65) 15.51,7.65 -15.51,7.65 ccw(c-15.51,6.65) -16.51,6.65 -16.51,-6.65
3D body "REL_MEDER_BE05-1B85-BV539.stp": height 10, standoff -3.2, extent -16.51,-7.65 16.51,7.65

## REL_MEDER_CRR3-1AS [mm] "10 Pin SPST BGA Relay, MEDER CRR3-1AS CRR Serie, Body 8.6mm x 4.4mm"
height 3.9
pads (10):
  round 0.5 smd: 1(-3.6,-1.5) 2(-1.2,-1.5) 3(1.2,-1.5) 4(3.6,-1.5) 5(3.6,0) 6(3.6,1.5) 7(1.2,1.5) 8(-1.2,1.5) 9(-3.6,1.5) 10(-3.6,0)
Top Overlay:
  circle w0.25: c-4.017,-2.766 r0.125
  lines w0.2: -4.3,-2.2 4.3,-2.2 4.3,2.2 -4.3,2.2 -4.3,-2.2
Mechanical 14:
  lines w0.1: -4.3,-2.1 -4.2,-2.2 ; -4.3,-2 -4.1,-2.2 ; -4.3,-1.9 -4,-2.2 ; -4.3,-1.8 -3.9,-2.2 ; -4.3,-1.7 -3.8,-2.2 ; -4.3,-1.6 -3.7,-2.2 ; -4.3,-1.5 -3.6,-2.2 ; -4.3,-1.4 -3.5,-2.2 ; -4.3,-1.3 -3.4,-2.2 ; -4.3,-1.2 -3.3,-2.2 ; -4.3,-2.2 4.3,-2.2 4.3,2.2 -4.3,2.2 -4.3,-2.2
Mechanical 15:
  circle w0.05: c0,0 r0.35
  lines w0.05: -0.5,0 0.5,0 ; 0,-0.5 0,0.5 ; -4.55,-2.45 4.55,-2.45 4.55,2.45 -4.55,2.45 -4.55,-2.45
3D body "REL_MEDER_CRR3-1AS.stp": height 3.6, standoff 0, extent -4.3,-2.2 4.3,2.2

## REL_MEDER_HI05-1A75 [mm] "SPST High Insulation Reed Relay, MEDER HI Series, Body 34 x 7.5 x 7.9 mm"
height 7.9
pads (4):
  round 1.3 hole 0.8: 3(10.16,2.54) 4(10.16,-2.54) 5(-10.16,-2.54) 6(-10.16,2.54)
Top Overlay:
  lines w0.2: -14,-0.2 -16.3,-0.2 -16.3,0.2 -14,0.2 ; -11.16,-1.8 -14,-1.8 -14,1.8 -11.16,1.8 ; -8.46,-3.75 -8.46,3.75 ; 8.46,-3.75 8.46,3.75 ; 11.16,-1.8 11.5,-1.8 12.833,-1 14,-1 14,1 12.833,1 11.5,1.8 11.16,1.8 ; 14,-0.2 16.3,-0.2 16.3,0.2 14,0.2 ; -11.16,-3.75 -11.16,3.75 11.16,3.75 11.16,-3.75 -11.16,-3.75
Mechanical 8:
  lines w0.1: -11.16,-2.54 -10.16,-2.54 ; -11.16,2.54 -10.16,2.54 ; -10.16,-3.54 -10.16,-2.54 ; -10.16,-1.54 -10.16,-2.54 ; -10.16,1.54 -10.16,2.54 ; -10.16,3.54 -10.16,2.54 ; -9.16,-2.54 -10.16,-2.54 ; -9.16,2.54 -10.16,2.54 ; -1,0 0,0 ; 0,-1 0,0 ; 0,1 0,0 ; 1,0 0,0 ; 9.16,-2.54 10.16,-2.54 ; 9.16,2.54 10.16,2.54 ; 10.16,-3.54 10.16,-2.54 ; 10.16,-1.54 10.16,-2.54 ; 10.16,1.54 10.16,2.54 ; 10.16,3.54 10.16,2.54 ; 11.16,-2.54 10.16,-2.54 ; 11.16,2.54 10.16,2.54
Mechanical 14:
  lines w0.1: -14,-0.2 -16.3,-0.2 -16.3,0.2 -14,0.2 ; -11.16,-1.8 -14,-1.8 -14,1.8 -11.16,1.8 ; -8.46,-3.75 -8.46,3.75 ; 8.46,-3.75 8.46,3.75 ; 11.16,-1.8 11.5,-1.8 12.833,-1 14,-1 14,1 12.833,1 11.5,1.8 11.16,1.8 ; 14,-0.2 16.3,-0.2 16.3,0.2 14,0.2 ; -11.16,-3.75 -11.16,3.75 11.16,3.75 11.16,-3.75 -11.16,-3.75
3D body "REL_MEDER_HI05-1A75.stp": height 7.4, standoff -3.8, extent -16.3,-3.75 16.3,3.75

## REL_NTE_R24-5D10-24 [mm] "SPDT PCB Relay, R24 Serie"
height 26.2
pads (5):
  round 2.1 hole 1.4: 1(-11.71,3.81) 2(-11.71,-3.81) 3(11.15,3.81) 4(8.61,-3.81) 5(6.07,3.81)
Top Overlay:
  lines w0.2: -10.21,-3.81 -7.958,-3.81 -7.958,-2.25 -7.458,-2.25 ccw(c-7.458,-1.5) -7.458,-0.75 ; -10.21,3.81 -7.958,3.81 -7.958,2.25 -7.458,2.25 cw(c-7.458,1.5) -7.458,0.75 ; -7.958,-0.75 -7.458,-0.75 ; -7.958,0.75 -7.458,0.75 ; 6.07,2.31 6.07,1 7.07,1 ; 8.61,-2.31 8.61,-1 10.413,1.342 ; 10.15,1 11.15,1 11.15,2.31 ; -7.458,-0.75 ccw(c-7.458,0) -7.458,0.75 ; -14.5,-6.05 14.5,-6.05 14.5,6.05 -14.5,6.05 -14.5,-6.05
Mechanical 8:
  lines w0.1: -12.21,-3.81 -11.71,-3.81 ; -12.21,3.81 -11.71,3.81 ; -11.71,-4.31 -11.71,-3.81 ; -11.71,-3.31 -11.71,-3.81 ; -11.71,3.31 -11.71,3.81 ; -11.71,4.31 -11.71,3.81 ; -11.21,-3.81 -11.71,-3.81 ; -11.21,3.81 -11.71,3.81 ; -0.5,0 0,0 ; 0,-0.5 0,0 ; 0,0.5 0,0 ; 0.5,0 0,0 ; 5.57,3.81 6.07,3.81 ; 6.07,3.31 6.07,3.81 ; 6.07,4.31 6.07,3.81 ; 6.57,3.81 6.07,3.81 ; 8.11,-3.81 8.61,-3.81 ; 8.61,-4.31 8.61,-3.81 ; 8.61,-3.31 8.61,-3.81 ; 9.11,-3.81 8.61,-3.81 ; 10.65,3.81 11.15,3.81 ; 11.15,3.31 11.15,3.81 ; 11.15,4.31 11.15,3.81 ; 11.65,3.81 11.15,3.81
Mechanical 14:
  lines w0.1: -10.21,-3.81 -7.958,-3.81 -7.958,-2.25 -7.458,-2.25 ccw(c-7.458,-1.5) -7.458,-0.75 ; -10.21,3.81 -7.958,3.81 -7.958,2.25 -7.458,2.25 cw(c-7.458,1.5) -7.458,0.75 ; -7.958,-0.75 -7.458,-0.75 ; -7.958,0.75 -7.458,0.75 ; 6.07,2.31 6.07,1 7.07,1 ; 8.61,-2.31 8.61,-1 10.413,1.342 ; 10.15,1 11.15,1 11.15,2.31 ; -7.458,-0.75 ccw(c-7.458,0) -7.458,0.75 ; -14.5,-6.05 14.5,-6.05 14.5,6.05 -14.5,6.05 -14.5,-6.05
3D body "REL_NTE_R24-5D10-24.stp": height 26.2, standoff -3.8, extent -14.5,-6.05 14.5,6.05

## REL_NTE_R25-11D10-24 [mm] "DPDT PCB Relay, R25 Serie"
height 25.5
pads (8):
  round 2.1 hole 1.4: 1(-12.1,-3.81) 7(3.14,-3.81) 9(8.22,-3.81) 11(13.3,-3.81) 12(13.3,3.81) 14(8.22,3.81) 16(3.14,3.81) 22(-12.1,3.81)
Top Overlay:
  circle w0.2: c8.22,1.655 r0.1
  circle w0.2: c8.22,-1.655 r0.1
  lines w0.2: -10.6,-3.81 -8.348,-3.81 -8.348,-2.25 -7.848,-2.25 ccw(c-7.848,-1.5) -7.848,-0.75 ; -10.6,3.81 -8.348,3.81 -8.348,2.25 -7.848,2.25 cw(c-7.848,1.5) -7.848,0.75 ; -8.348,-0.75 -7.848,-0.75 ; -8.348,0.75 -7.848,0.75 ; 3.14,-2.31 3.14,-0.5 7.42,-0.5 ; 3.14,2.31 3.14,0.5 7.42,0.5 ; 7.633,-0.2 8.22,-1.655 8.22,-2.31 ; 7.633,0.2 8.22,1.655 8.22,2.31 ; 9.02,-0.5 13.3,-0.5 13.3,-2.31 ; 9.02,0.5 13.3,0.5 13.3,2.31 ; -7.848,-0.75 ccw(c-7.848,0) -7.848,0.75 ; -14.5,-6.35 -14.5,6.35 14.5,6.35 14.5,-6.35 -14.5,-6.35 ; 7.42,-0.8 7.72,-0.5 7.42,-0.2 7.42,-0.8 ; 7.42,0.2 7.72,0.5 7.42,0.8 7.42,0.2 ; 8.72,-0.5 9.02,-0.8 9.02,-0.2 8.72,-0.5 ; 8.72,0.5 9.02,0.8 9.02,0.2 8.72,0.5
Mechanical 8:
  lines w0.1: -12.6,-3.81 -12.1,-3.81 ; -12.6,3.81 -12.1,3.81 ; -12.1,-4.31 -12.1,-3.81 ; -12.1,-3.31 -12.1,-3.81 ; -12.1,3.31 -12.1,3.81 ; -12.1,4.31 -12.1,3.81 ; -11.6,-3.81 -12.1,-3.81 ; -11.6,3.81 -12.1,3.81 ; -0.5,0 0,0 ; 0,-0.5 0,0 ; 0,0.5 0,0 ; 0.5,0 0,0 ; 2.64,3.81 3.14,3.81 ; 3.14,3.31 3.14,3.81 ; 3.14,4.31 3.14,3.81 ; 3.64,3.81 3.14,3.81 ; 7.72,3.81 8.22,3.81 ; 8.22,3.31 8.22,3.81 ; 8.22,4.31 8.22,3.81 ; 8.72,3.81 8.22,3.81 ; 12.8,-3.81 13.3,-3.81 ; 12.8,3.81 13.3,3.81 ; 13.3,-4.31 13.3,-3.81 ; 13.3,-3.31 13.3,-3.81 ; 13.3,3.31 13.3,3.81 ; 13.3,4.31 13.3,3.81 ; 13.8,-3.81 13.3,-3.81 ; 13.8,3.81 13.3,3.81 ; 2.64,-3.81 3.14,-3.81 ; 2.64,-3.81 3.14,-3.81 ; 2.64,-3.81 3.14,-3.81 ; 3.14,-4.31 3.14,-3.81 ; 3.14,-4.31 3.14,-3.81 ; 3.14,-4.31 3.14,-3.81 ; 3.14,-3.81 3.14,-3.31 ; 3.14,-3.81 3.64,-3.81 ; 3.14,-3.81 3.14,-3.31 ; 3.14,-3.81 3.64,-3.81 ; 3.14,-3.81 3.14,-3.31 ; 3.14,-3.81 3.64,-3.81 ; 7.72,-3.81 8.22,-3.81 ; 7.72,-3.81 8.22,-3.81 ; 7.72,-3.81 8.22,-3.81 ; 7.72,-3.81 8.22,-3.81 ; 8.22,-4.31 8.22,-3.81 ; 8.22,-4.31 8.22,-3.81 ; 8.22,-4.31 8.22,-3.81 ; 8.22,-4.31 8.22,-3.81 ; 8.22,-3.81 8.22,-3.31 ; 8.22,-3.81 8.72,-3.81 ; 8.22,-3.81 8.22,-3.31 ; 8.22,-3.81 8.72,-3.81 ; 8.22,-3.81 8.22,-3.31 ; 8.22,-3.81 8.72,-3.81 ; 8.22,-3.81 8.22,-3.31 ; 8.22,-3.81 8.72,-3.81
Mechanical 14:
  circle w0.1: c8.22,1.655 r0.1
  circle w0.1: c8.22,-1.655 r0.1
  lines w0.1: -10.6,-3.81 -8.348,-3.81 -8.348,-2.25 -7.848,-2.25 ccw(c-7.848,-1.5) -7.848,-0.75 ; -10.6,3.81 -8.348,3.81 -8.348,2.25 -7.848,2.25 cw(c-7.848,1.5) -7.848,0.75 ; -8.348,-0.75 -7.848,-0.75 ; -8.348,0.75 -7.848,0.75 ; 3.14,-2.31 3.14,-0.5 7.42,-0.5 ; 3.14,2.31 3.14,0.5 7.42,0.5 ; 7.633,-0.2 8.22,-1.655 8.22,-2.31 ; 7.633,0.2 8.22,1.655 8.22,2.31 ; 9.02,-0.5 13.3,-0.5 13.3,-2.31 ; 9.02,0.5 13.3,0.5 13.3,2.31 ; -7.848,-0.75 ccw(c-7.848,0) -7.848,0.75 ; -14.5,-6.35 -14.5,6.35 14.5,6.35 14.5,-6.35 -14.5,-6.35 ; 7.42,-0.8 7.72,-0.5 7.42,-0.2 7.42,-0.8 ; 7.42,0.2 7.72,0.5 7.42,0.8 7.42,0.2 ; 8.72,-0.5 9.02,-0.8 9.02,-0.2 8.72,-0.5 ; 8.72,0.5 9.02,0.8 9.02,0.2 8.72,0.5
3D body "REL_NTE_R25-11D10-24.stp": height 25.5, standoff -3.8, extent -14.5,-6.35 14.5,6.35

## REL_OMRON_G2RG-2A4 [mm] "6 Leads, Row Spacing 7.5 mm; Body 29mm x 13.5mm, OMRON_G2RG Serie"
height 0.648
pads (6):
  rect 2x2 hole 1.3: 1(-12.5,-3.75)
  round 2 hole 1.3: 3(7.5,-3.75) 4(12.5,-3.75) 5(12.5,3.75) 6(7.5,3.75) 8(-12.5,3.75)
Top Overlay:
  lines w0.2: -14.5,-1.5 -12.25,-1.5 -12.25,1.5 -14.5,1.5 ; -14.5,-6.75 -14.5,6.75 14.5,6.75 14.5,-6.75 -14.5,-6.75
Mechanical 8:
  lines w0.1: -13,-3.75 -12.5,-3.75 ; -13,3.75 -12.5,3.75 ; -12.5,-4.25 -12.5,-3.75 ; -12.5,-3.25 -12.5,-3.75 ; -12.5,3.25 -12.5,3.75 ; -12.5,4.25 -12.5,3.75 ; -12,-3.75 -12.5,-3.75 ; -12,3.75 -12.5,3.75 ; -0.5,0 0,0 ; 0,-0.5 0,0 ; 0,0.5 0,0 ; 0.5,0 0,0 ; 7,-3.75 7.5,-3.75 ; 7,3.75 7.5,3.75 ; 7.5,-4.25 7.5,-3.75 ; 7.5,-3.25 7.5,-3.75 ; 7.5,3.25 7.5,3.75 ; 7.5,4.25 7.5,3.75 ; 8,-3.75 7.5,-3.75 ; 8,3.75 7.5,3.75 ; 12,-3.75 12.5,-3.75 ; 12,3.75 12.5,3.75 ; 12.5,-4.25 12.5,-3.75 ; 12.5,-3.25 12.5,-3.75 ; 12.5,3.25 12.5,3.75 ; 12.5,4.25 12.5,3.75 ; 13,-3.75 12.5,-3.75 ; 13,3.75 12.5,3.75
Mechanical 14:
  lines w0.1: -14.5,-1.5 -12.25,-1.5 -12.25,1.5 -14.5,1.5 ; -14.5,-6.75 -14.5,6.75 14.5,6.75 14.5,-6.75 -14.5,-6.75
3D body "REL_OMRON_G2RG-2A4.stp": height 25.5, standoff -3.6, extent -14.5,-6.75 14.5,6.75

## REL_OMRON_G5V-1 [mm] "6 Leads, Row Spacing 5.08mm; Body 12.5mm x 7.5mm, OMRON_G5V-1 Serie"
height 10
pads (6):
  rect 1.7x1.7 hole 1: 1(-5.08,-2.54)
  round 1.7 hole 1: 2(-2.54,-2.54) 5(5.08,-2.54) 6(5.08,2.54) 9(-2.54,2.54) 10(-5.08,2.54)
Top Overlay:
  circle w0.2: c5.08,0 r0.1
  circle w0.2: c-4.445,0 r0.1
  lines w0.2: -5.715,-0.635 -4.445,0 -3.492,0 ; -5.08,-1.27 -5.08,-0.885 ; -5.08,0.885 -5.08,1.27 ; -2.858,0.953 -2.222,0.318 ; -2.54,-1.27 -2.54,0.318 ; -2.54,0.953 -2.54,1.27 ; -1.587,0 5.08,0 ; 5.08,-1.27 5.08,1.27 ; -6.25,-3.75 -6.25,3.75 6.25,3.75 6.25,-3.75 -6.25,-3.75 ; -5.205,-0.885 -5.08,-0.385 -4.955,-0.885 -5.205,-0.885 ; -5.205,0.885 -5.08,0.385 -4.955,0.885 -5.205,0.885 ; -3.175,0.318 -1.905,0.318 -1.905,0.953 -3.175,0.953 -3.175,0.318
Mechanical 8:
  lines w0.1: -6.08,-2.54 -5.08,-2.54 -5.08,-3.54 ; -6.08,2.54 -5.08,2.54 -5.08,3.54 ; -3.54,-2.54 -2.54,-2.54 -2.54,-3.54 ; -3.54,2.54 -2.54,2.54 -2.54,3.54 ; -1,0 0,0 0,1 ; 4.08,-2.54 5.08,-2.54 5.08,-3.54 ; 4.08,2.54 5.08,2.54 5.08,3.54
Mechanical 14:
  circle w0.1: c-4.445,0 r0.1
  circle w0.1: c5.08,0 r0.1
  lines w0.1: -5.715,-0.635 -4.445,0 -3.492,0 ; -5.08,-1.27 -5.08,-0.885 ; -5.08,0.885 -5.08,1.27 ; -2.858,0.953 -2.222,0.318 ; -2.54,-1.27 -2.54,0.318 ; -2.54,0.953 -2.54,1.27 ; -1.587,0 5.08,0 ; 5.08,-1.27 5.08,1.27 ; -6.25,-3.75 6.25,-3.75 6.25,3.75 -6.25,3.75 -6.25,-3.75 ; -5.205,-0.885 -4.955,-0.885 -5.08,-0.385 -5.205,-0.885 ; -5.205,0.885 -4.955,0.885 -5.08,0.385 -5.205,0.885 ; -3.175,0.318 -3.175,0.953 -1.905,0.953 -1.905,0.318 -3.175,0.318
3D body "REL_OMRON_G5V-1.stp": height 10, standoff -3.5, extent -6.25,-3.75 6.25,3.75

## REL_OMRON_G5V-2 [mm] "8 Leads, Row Spacing 7.62 mm; Body 20.5mm x 10.1mm, OMRON_G5V-2 Serie"
height 11.5
pads (8):
  rect 1.5x1.5 hole 1: 1(-8.89,-3.81)
  round 1.5 hole 1: 4(-1.27,-3.81) 6(3.81,-3.81) 8(8.89,-3.81) 9(8.89,3.81) 11(3.81,3.81) 13(-1.27,3.81) 16(-8.89,3.81)
Top Overlay:
  lines w0.2: -10.25,-1.5 -8.5,-1.5 -8.5,1.5 -10.25,1.5 ; -10.25,-5.05 10.25,-5.05 10.25,5.05 -10.25,5.05 -10.25,-5.05
Mechanical 14:
  lines w0.1: -10.25,-1.5 -8.5,-1.5 -8.5,1.5 -10.25,1.5 ; -7.874,-3.81 -5.969,-3.81 -5.969,-0.762 ; -7.874,3.81 -5.969,3.81 -5.969,0.762 ; -1.27,-2.54 -1.27,-2.032 6.35,-2.032 6.35,-2.54 5.842,-3.302 ; -1.27,2.54 -1.27,2.032 6.35,2.032 6.35,2.54 5.842,3.302 ; 5.08,-3.81 5.715,-3.81 5.715,-3.048 cw(c5.588,-3.175) 5.715,-3.302 ; 5.08,3.81 5.715,3.81 5.715,3.048 ccw(c5.588,3.175) 5.715,3.302 ; 6.985,-3.302 cw(c7.112,-3.175) 6.985,-3.048 6.985,-3.81 7.62,-3.81 ; 6.985,3.302 ccw(c7.112,3.175) 6.985,3.048 6.985,3.81 7.62,3.81 ; -10.25,-5.05 10.25,-5.05 10.25,5.05 -10.25,5.05 -10.25,-5.05 ; -7.239,-0.762 -4.699,-0.762 -4.699,0.762 -7.239,0.762 -7.239,-0.762
3D body "REL_OMRON_G5V-2.stp": height 11.5, standoff -3.5, extent -10.249,-5.049 10.251,5.051